# Altium footprint library PFC_Interleaved_V8.1.PcbLib: 67 footprints (part 4 of 5)
Each footprint in its own frame and in the unit in brackets; x right, y up, seen from the top. Pads: shape width x height; smd on the part's side, far side on the other; paste and mask are expansions set on the pad; w line width, h text height; cw(c..) or ccw(c..) is an arc to the next point about the centre after c.
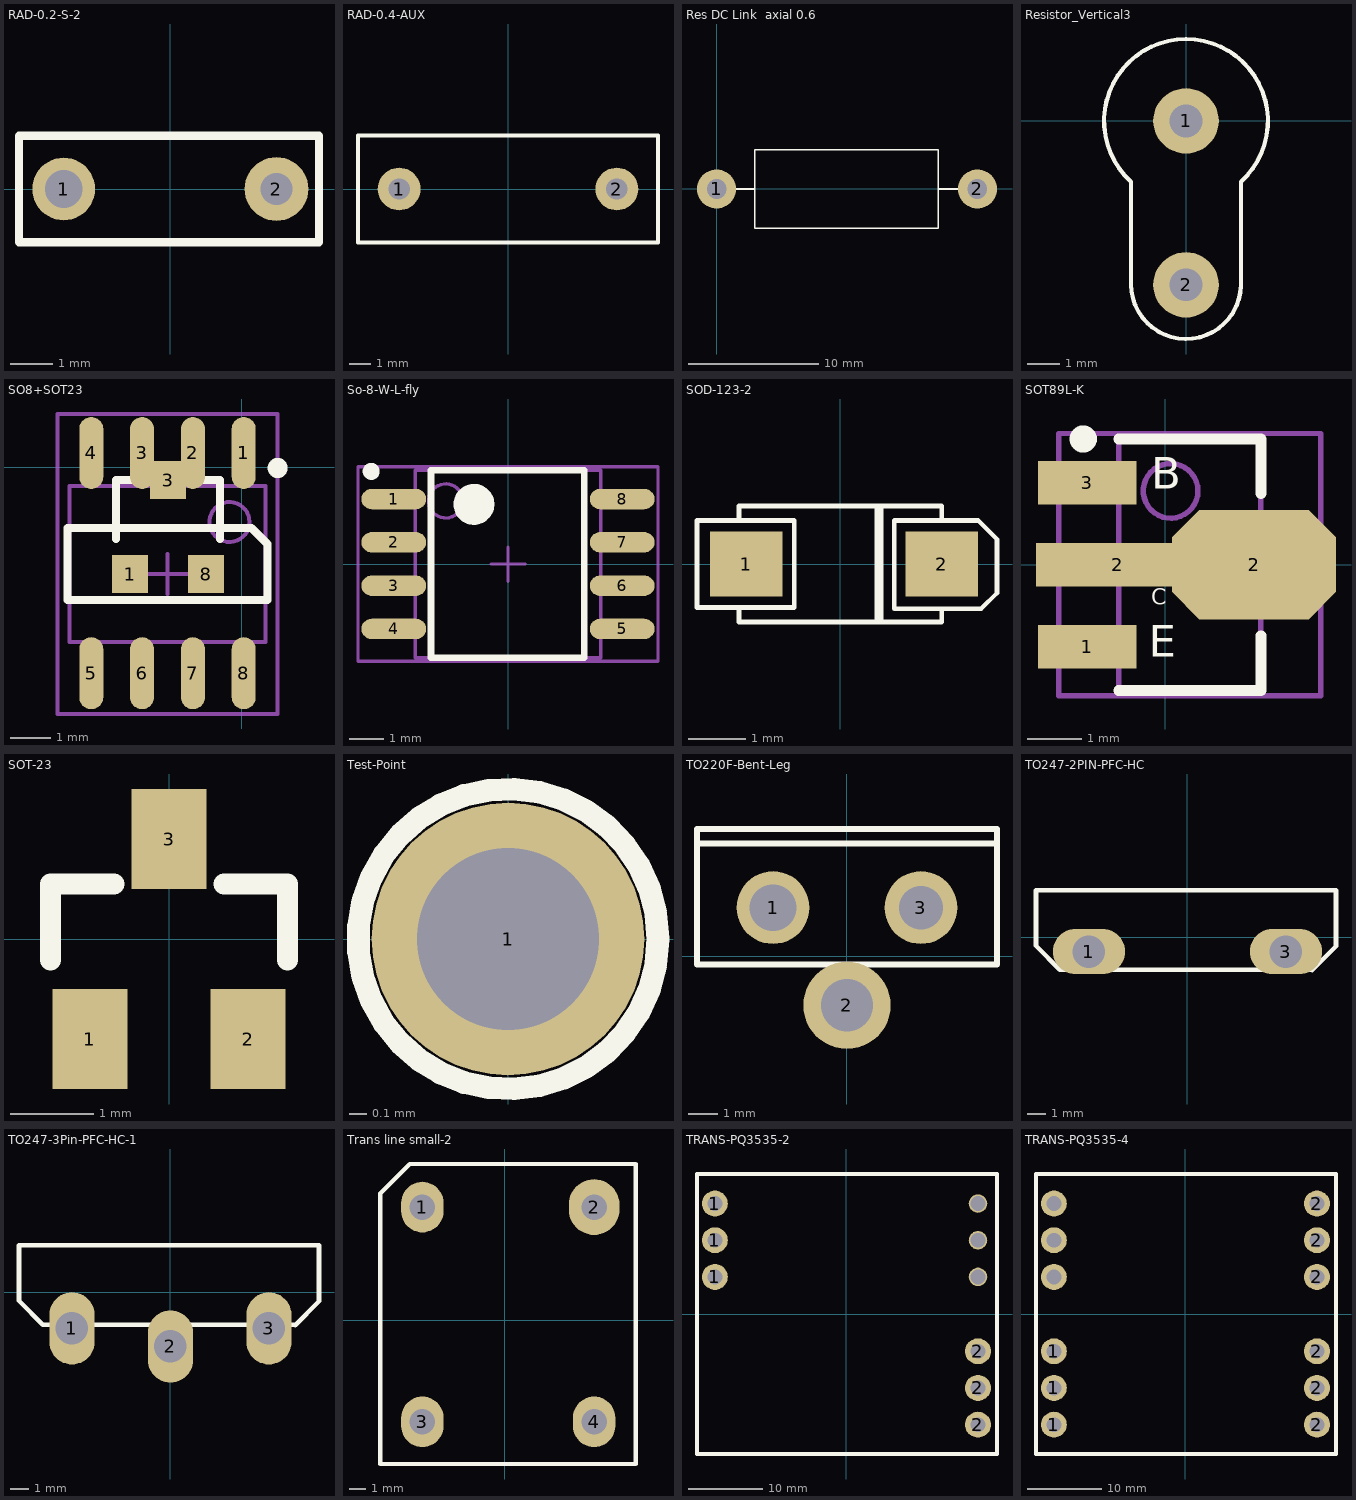
[diagram p3: the footprints below, top view; thin cyan lines are the x and y axes]

## RAD-0.2-S-2 [mil]
pads (2):
  round 59.06 hole 35.43: 1(-100,0)
  round 60 hole 30: 2(100,0)
Top Overlay:
  lines w7.87: -142,-50 -142,50 140,50 140,-50 -142,-50
3D body: height 275.56, standoff 39.4, extent -116.09,-17.68 120,21.69
3D body: height 118.11, standoff 0, extent -104.84,-9.84 -85.15,9.85
3D body: height 118.11, standoff 0, extent 90.16,-9.84 109.85,9.85

## RAD-0.4-AUX [mm]
pads (2):
  round 2 hole 1: 1(-5.08,0) 2(5.08,0)
Top Overlay:
  lines w0.2: -7,-2.5 -7,2.5 ; -6.985,-2.5 6.985,-2.5 ; -6.985,2.5 6.985,2.5 ; 7,-2.5 7,2.5
3D body: height 5, standoff -2, extent 4.683,-0.399 5.48,0.399
3D body: height 5, standoff -2, extent -5.477,-0.399 -4.68,0.399
3D body: height 10, standoff 0.1, extent -6.909,-2.413 6.883,2.388

## Res DC Link  axial 0.6 [mm]
pads (2):
  round 3 / inner round 3 / far side round 0 hole 1.5: 1(0,0) 2(20,0)
Top Overlay:
  lines w0.127: 1.43,0 2.93,0 ; 17.018,0 18.518,0 ; 2.93,-3 16.993,-3 16.993,3 2.93,3 2.93,-3
3D body: height 4.07, standoff 3.43, extent -0.289,-0.28 2.711,0.355
3D body: height 6.8, standoff 1.2, extent 1.499,-2.825 18.499,2.775
3D body: height 4, standoff 0, extent -0.317,-0.317 0.318,0.318
3D body: height 4.07, standoff 3.43, extent 17,-0.318 20,0.317
3D body: height 4, standoff 0, extent 19.683,-0.317 20.318,0.318

## Resistor_Vertical3 [mm]
pads (2):
  round 2 hole 1: 1(0,0) 2(0,-5)
Top Overlay:
  lines w0.127: -1.676,-5.08 -1.676,-1.88 ; -1.675,-4.978 ccw(c0,-4.978) 1.675,-5.017 ; -1.675,-1.856 cw(c0,0) 1.677,-1.854 1.676,-5.08
3D body: height 21, standoff 19, extent -0.241,-0.251 0.393,0.383
3D body: height 21.31, standoff 20.68, extent -0.38,-5.667 0.254,0.333
3D body: height 2, standoff -2, extent -0.241,-0.249 0.393,0.383
3D body: height 19, standoff 2, extent -2.409,-2.455 2.574,2.545
3D body: height 21, standoff -2, extent -0.317,-5 0.317,-4.368

## SO8+SOT23 [mm]
pads (11):
  rect 0.9x0.95 smd: 1(-2.789,-2.667) 3(-1.839,-0.317) 8(-0.889,-2.667)
  oval 0.6x1.8 smd: 1(0.051,0.365) 2(-1.219,0.365) 3(-2.489,0.365) 4(-3.759,0.365) 5(-3.759,-5.143) 6(-2.489,-5.143) 7(-1.219,-5.143) 8(0.051,-5.143)
Top Overlay:
  circle w0.25: c0.901,-0.013 r0.125
  lines w0.2: -3.139,-1.792 -3.139,-0.317 -2.689,-0.317 ; -0.989,-0.317 -0.539,-0.317 -0.539,-1.792 ; -4.354,-3.313 -4.354,-1.513 0.243,-1.513 0.646,-1.916 0.646,-3.313 -4.354,-3.313
Mechanical 13:
  circle w0.1: c-0.304,-1.363 r0.5
  lines w0.1: -4.304,-4.363 -4.304,-0.463 0.596,-0.463 0.596,-4.363 -4.304,-4.363
Mechanical 15:
  lines w0.1: -2.354,-2.667 -1.354,-2.667 ; -1.854,-3.167 -1.854,-2.167 ; -4.604,-6.163 -4.604,1.337 0.896,1.337 0.896,-6.163 -4.604,-6.163
3D body "SO8_narrow.step": height 1.7, standoff 0, extent -4.267,-5.563 0.559,0.635

## So-8-W-L-fly [mm]
pads (8):
  oval 1.9x0.6 smd: 1(-3.35,1.905) 2(-3.35,0.635) 3(-3.35,-0.635) 4(-3.35,-1.905) 5(3.35,-1.905) 6(3.35,-0.635) 7(3.35,0.635) 8(3.35,1.905)
Top Overlay:
  circle w0.6: c-1,1.75 r0.3
  circle w0.25: c-4.013,2.718 r0.125
  lines w0.2: -2.261,-2.75 2.235,-2.75 2.235,2.75 -2.261,2.75 -2.261,-2.75
Mechanical 13:
  circle w0.1: c-1.825,1.85 r0.5
  lines w0.1: -2.725,-2.75 2.725,-2.75 2.725,2.75 -2.725,2.75 -2.725,-2.75
Mechanical 15:
  lines w0.1: -0.5,0 0.5,0 ; 0,-0.5 0,0.5 ; -4.4,-2.85 4.4,-2.85 4.4,2.85 -4.4,2.85 -4.4,-2.85
3D body "SO8_narrow.step": height 1.7, standoff 0, extent -3.15,-2.438 3.048,2.388

## SOD-123-2 [mil]
pads (2):
  rect 50x45 smd: 1(-65,0) 2(70,0)
Top Overlay:
  lines w3.15: -70,-30 -70,-40 70,-40 70,-31 ; -70,30 -70,40 70,40 70,30 ; 25,-40 25,40 ; 27,-40 27,40 ; 28,-40 28,40 ; -99,-30 -99,30 -32,30 -32,-30 -99,-30 ; 37,-31 97,-31 108,-20 108,17 95,30 37,30 37,-31
3D body "SODFL350X110-2N.step": height 43.31, standoff 0, extent -67.9,-37 69.9,37.8

## SOT89L-K [mm]
pads (4):
  rect 1.8x0.8 smd: 1(-1.428,-1.5) 3(-1.428,1.5)
  rect 3x0.8 smd: 2(-0.864,0)
  oct 3x2 smd: 2(1.626,0)
Top Overlay:
  circle w0.25: c-1.5,2.3 r0.125
  lines w0.2: -0.85,-2.3 1.75,-2.3 1.75,-1.3 ; -0.85,2.3 1.75,2.3 1.75,1.3
  text "B" at -0.254,1.194 h1
  text "E" at -0.305,-1.88 h1
  text "C" at -0.254,-0.838 h0.5
Mechanical 13:
  circle w0.1: c0.1,1.35 r0.5
  lines w0.1: -0.85,-2.3 -0.85,2.3 1.75,2.3 1.75,-2.3 -0.85,-2.3
Mechanical 15:
  lines w0.1: -0.05,0 0.95,0 ; 0.45,-0.5 0.45,0.5 ; -1.95,-2.4 -1.95,2.4 2.85,2.4 2.85,-2.4 -1.95,-2.4
3D body "CircuitWorks-SOT-89.step": height 1.5, standoff 0, extent -1.582,-2.25 2.418,2.25

## SOT-23 [mm]
pads (3):
  rect 0.9x1.2 smd: 1(-0.95,-1.2) 2(0.95,-1.2) 3(0,1.2)
Top Overlay:
  lines w0.254: -1.422,-0.254 -1.422,0.66 -0.66,0.66 ; 0.66,0.66 1.422,0.66 1.422,-0.254
3D body "SW3DPS-SOT-23-DEFAULT.STEP": height 1.05, standoff -0.05, extent -1.5,-1.25 1.5,1.25

## Test-Point [mil]
pads (1):
  round 60 hole 40: 1(0,0)
Top Overlay:
  circle w5: c0,0 r33

## TO220F-Bent-Leg [mm]
pads (3):
  round 2.5 hole 1.6: 1(-2.54,1.676)
  round 3 hole 1.8: 2(0,-1.676)
  round 2.5 hole 1.5: 3(2.54,1.676)
Top Overlay:
  lines w0.2: -5.15,3.876 5.15,3.876 ; -5.15,-0.279 5.15,-0.279 5.15,4.376 -5.15,4.376 -5.15,-0.279
3D body "TO220F.step": height 23.95, standoff -5, extent -5,-1.676 5,4.394

## TO247-2PIN-PFC-HC [mm]
pads (2):
  oval 4x2.5 hole 1.8: 1(-5.45,-0.8) 3(5.45,-0.8)
Top Overlay:
  lines w0.254: 6.898,-1.802 -7.062,-1.802 -8.382,-0.481 -8.382,2.591 8.223,2.591 8.223,-0.501 6.905,-1.819
3D body "User Library-TO247-2.STEP": height 27.5, standoff -13.57, extent -7.975,-2.388 7.975,2.642

## TO247-3Pin-PFC-HC-1 [mm]
pads (3):
  oval 2.5x4 hole 1.8: 1(-5.45,-2) 2(0,-3) 3(5.45,-2)
Top Overlay:
  lines w0.254: 6.898,-1.802 -7.062,-1.802 -8.382,-0.481 -8.382,2.591 8.223,2.591 8.223,-0.501 6.905,-1.819
3D body: height 15, standoff -4, extent -0.508,-0.127 0.508,0.127
3D body "User Library-TO247-2.STEP": height 27.5, standoff -13.57, extent -7.975,-2.566 7.975,2.464

## Trans line small-2 [mm]
pads (4):
  oval 2.5x3 hole 1.5: 1(-4.883,6.681) 3(-4.883,-6.019) 4(5.277,-6.019)
  oval 3x3.3 hole 1.5: 2(5.277,6.681)
Top Overlay:
  lines w0.254: -7.374,-8.513 -7.374,7.485 -5.629,9.23 5.215,9.23 7.742,9.23 7.742,6.702 7.742,-8.513 -7.374,-8.513
3D body: height 2, standoff -2, extent 4.679,6.081 5.875,7.281
3D body: height 2, standoff -2, extent 4.933,-6.492 6.129,-5.292
3D body: height 2, standoff -2, extent -5.424,-6.569 -4.228,-5.369
3D body: height 2, standoff -2, extent -5.227,6.208 -4.031,7.408
3D body: height 22, standoff 2, extent -2.476,-8.509 3.238,9.271
3D body: height 2, standoff 1, extent -7.493,-8.509 7.874,9.271
3D body: height 21.99, standoff 8, extent -6.998,-4.127 6.998,-0.127
3D body: height 21.99, standoff 8, extent -7.062,0.603 6.935,4.603
3D body: height 22, standoff 2, extent -7.112,-0.095 6.985,0.603
3D body: height 22, standoff 2, extent -7.112,4.731 6.985,5.429
3D body: height 22, standoff 2, extent -7.239,-4.921 6.858,-4.223

## TRANS-PQ3535-2 [mm]
pads (9):
  round 3.5 hole 2: 1(-17.755,5.016) 1(-17.755,9.97) 1(-17.755,14.922) 2(17.755,-14.922) 2(17.755,-9.97) 2(17.755,-5.016)
  round 2.5 hole 2: ""(17.755,5.016) ""(17.755,9.97) ""(17.755,14.922)
Top Overlay:
  lines w0.5: -20.168,-18.885 20.32,-18.885 20.32,18.91 -20.168,18.91 -20.168,-18.885
3D body "PQ3535.STEP": height 41.8, standoff -3, extent -19.526,-18.287 19.474,18.313

## TRANS-PQ3535-4 [mm]
pads (12):
  round 3.5 hole 2: 1(-17.755,-14.922) 1(-17.755,-9.97) 1(-17.755,-5.016) 2(17.755,-14.922) 2(17.755,-9.97) 2(17.755,-5.016) 2(17.755,5.016) 2(17.755,9.97) 2(17.755,14.922) ""(-17.755,5.016) ""(-17.755,9.97) ""(-17.755,14.922)
Top Overlay:
  lines w0.5: -20.168,-18.885 20.32,-18.885 20.32,18.91 -20.168,18.91 -20.168,-18.885
3D body "PQ3535.STEP": height 41.8, standoff -3, extent -19.526,-18.287 19.474,18.313